# Altium schematic symbol library SCH - RELAY - LTV356T.SCHLIB: 1 symbol
Pins are listed as number, name and electrical type; pins without a type are passive.

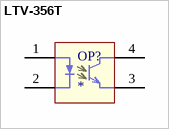
[diagram p0: symbol LTV-356T]

## LTV-356T
designator OP?
pins: 1, 2, 3, 4